# Altium footprint library Connectivity_Plugs.PcbLib: 37 footprints (part 2 of 3)
Each footprint in its own frame and in the unit in brackets; x right, y up, seen from the top. Pads: shape width x height; smd on the part's side, far side on the other; paste and mask are expansions set on the pad; w line width, h text height; cw(c..) or ccw(c..) is an arc to the next point about the centre after c.
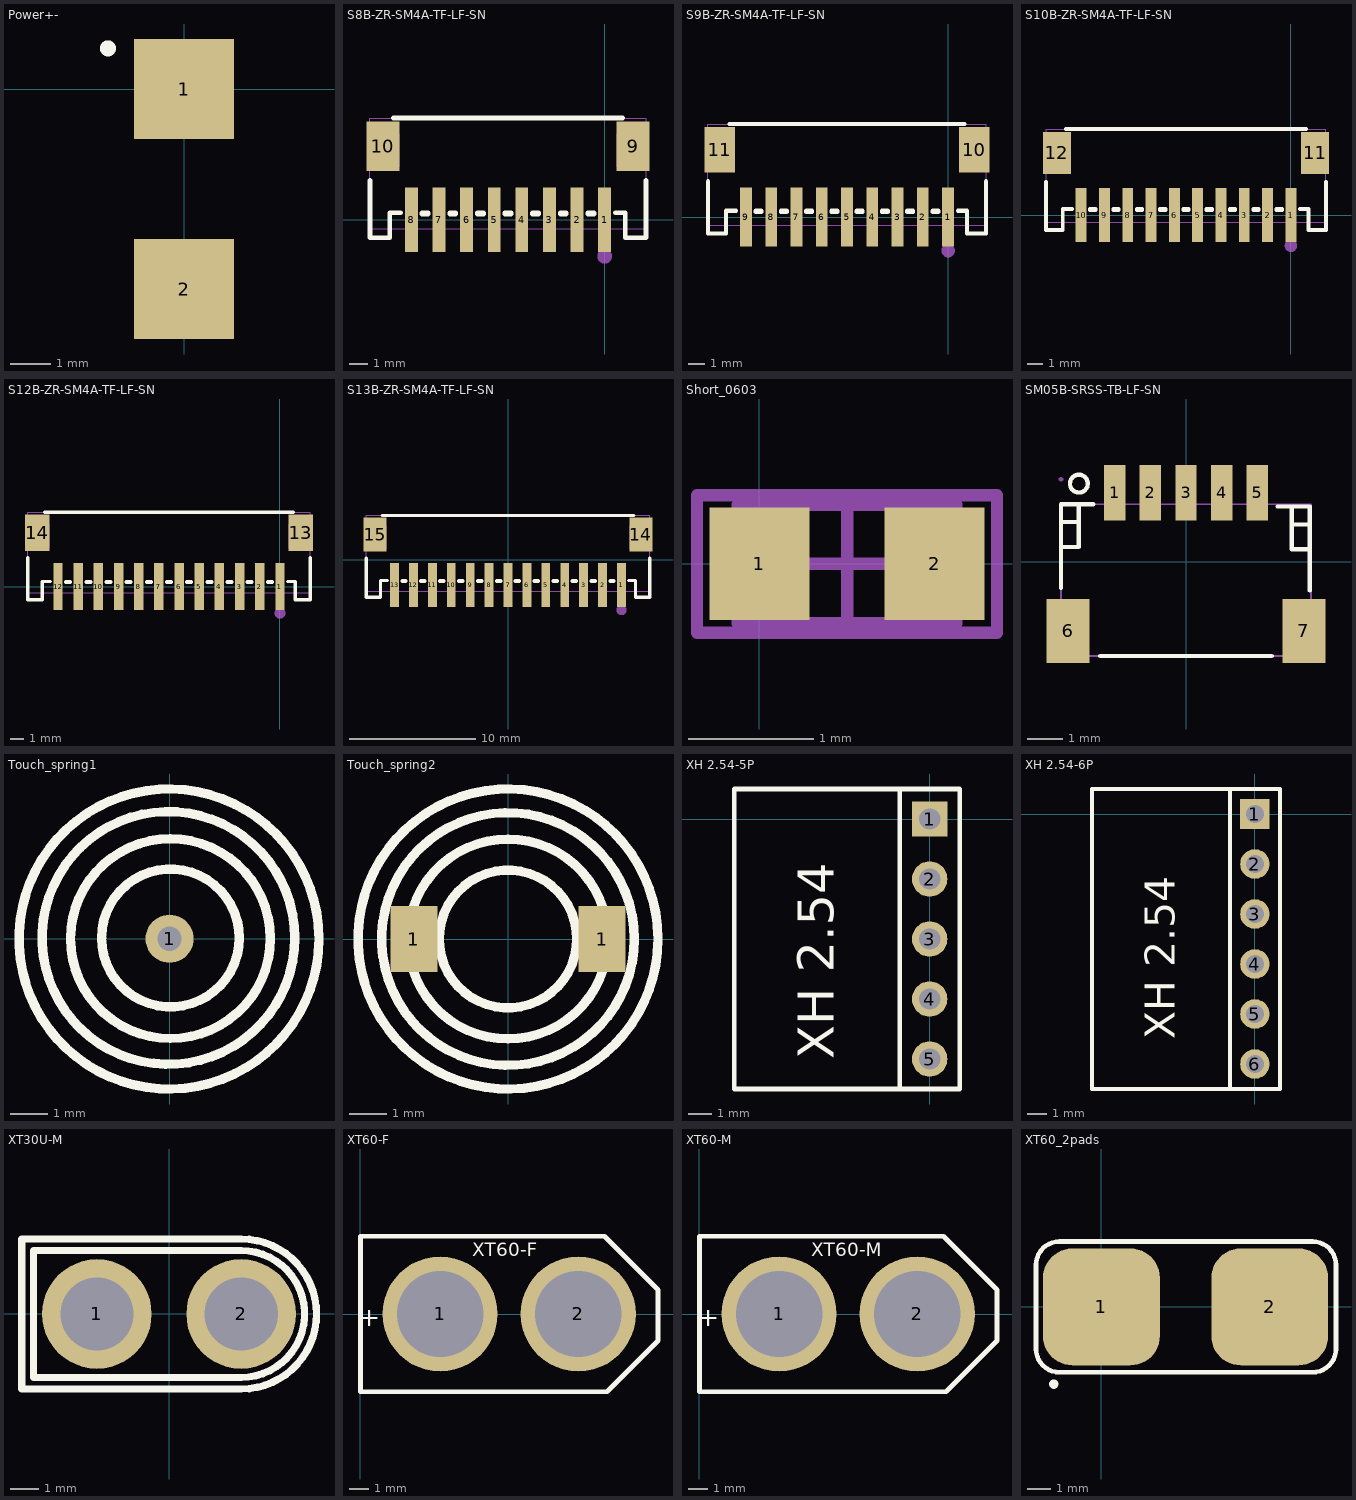
[diagram p1: the footprints below, top view; thin cyan lines are the x and y axes]

## Power+- [mm]
pads (2):
  rect 2.5x2.5 smd: 1(0,0) 2(0,-5)
Top Overlay:
  circle w0.2: c-1.905,1.016 r0.1

## S8B-ZR-SM4A-TF-LF-SN [mm] "SMD"
pads (10):
  rect 0.7x3.5 smd mask+0.051: 1(0,0) 2(-1.5,0) 3(-3,0) 4(-4.5,0) 5(-6,0) 6(-7.5,0) 7(-9,0) 8(-10.5,0)
  rect 1.8x2.7 smd mask+0.051: 9(1.55,4.003) 10(-12.05,4.004)
Top Overlay:
  lines w0.254: -12.75,2.141 -12.75,-0.969 -11.679,-0.969 -11.679,0.375 -11.081,0.375 ; -11.475,5.531 0.976,5.531 ; -9.919,0.312 -9.581,0.312 ; -9.919,0.375 -9.581,0.375 ; -8.419,0.312 -8.081,0.312 ; -8.419,0.375 -8.081,0.375 ; -6.919,0.312 -6.581,0.312 ; -6.919,0.375 -6.581,0.375 ; -5.419,0.312 -5.081,0.312 ; -5.419,0.375 -5.081,0.375 ; -3.919,0.312 -3.581,0.312 ; -3.919,0.375 -3.581,0.375 ; -2.419,0.312 -2.081,0.312 ; -2.419,0.375 -2.081,0.375 ; -0.919,0.312 -0.581,0.312 ; -0.919,0.375 -0.581,0.375 ; 0.581,0.375 1.125,0.375 1.125,-0.969 2.25,-0.969 2.25,2.141
Mechanical 6:
  circle w0.4: c0,-1.984 r0.2
Mechanical 15:
  region: -12.75,4.681 -11.15,4.681 -11.15,2.881 -12.75,2.881
  region: 0.65,4.68 2.25,4.68 2.25,2.88 0.65,2.88
  region: 0.2,-0.978 -0.2,-0.978 -0.2,1.522 0.2,1.522
  region: -1.3,-0.978 -1.7,-0.978 -1.7,1.522 -1.3,1.522
  region: -2.8,-0.978 -3.2,-0.978 -3.2,1.522 -2.8,1.522
  region: -4.3,-0.978 -4.7,-0.978 -4.7,1.522 -4.3,1.522
  region: -5.8,-0.978 -6.2,-0.978 -6.2,1.522 -5.8,1.522
  region: -7.3,-0.978 -7.7,-0.978 -7.7,1.522 -7.3,1.522
  region: -8.8,-0.978 -9.2,-0.978 -9.2,1.522 -8.8,1.522
  region: -10.3,-0.978 -10.7,-0.978 -10.7,1.522 -10.3,1.522
  region: 2.31,-0.978 2.31,-0.954 2.275,-0.918 2.225,-0.918 2.19,-0.954 2.19,-0.978 2.19,-1.003 2.225,-1.038 2.275,-1.038 2.31,-1.003
  lines w0.051: -12.75,-0.478 -12.75,5.522 2.25,5.522 2.25,-0.478 -12.75,-0.478
3D body: height 3.7, standoff 0, extent -12.954,-1.143 2.413,5.588

## S9B-ZR-SM4A-TF-LF-SN [mm] "SMD"
pads (11):
  rect 0.7x3.5 smd mask+0.051: 1(0,0) 2(-1.5,0) 3(-3,0) 4(-4.5,0) 5(-6,0) 6(-7.5,0) 7(-9,0) 8(-10.5,0) 9(-12,0)
  rect 1.8x2.7 smd mask+0.051: 10(1.55,4.003) 11(-13.55,4.004)
Top Overlay:
  lines w0.254: -14.25,2.141 -14.25,-0.969 -13.179,-0.969 -13.179,0.375 -12.581,0.375 ; -12.975,5.531 0.976,5.531 ; -11.419,0.312 -11.081,0.312 ; -11.419,0.375 -11.081,0.375 ; -9.919,0.312 -9.581,0.312 ; -9.919,0.375 -9.581,0.375 ; -8.419,0.312 -8.081,0.312 ; -8.419,0.375 -8.081,0.375 ; -6.919,0.312 -6.581,0.312 ; -6.919,0.375 -6.581,0.375 ; -5.419,0.312 -5.081,0.312 ; -5.419,0.375 -5.081,0.375 ; -3.919,0.312 -3.581,0.312 ; -3.919,0.375 -3.581,0.375 ; -2.419,0.312 -2.081,0.312 ; -2.419,0.375 -2.081,0.375 ; -0.919,0.312 -0.581,0.312 ; -0.919,0.375 -0.581,0.375 ; 0.581,0.375 1.125,0.375 1.125,-0.969 2.25,-0.969 2.25,2.141
Mechanical 6:
  circle w0.4: c0,-1.984 r0.2
Mechanical 15:
  region: 2.31,-0.978 2.31,-0.954 2.275,-0.918 2.225,-0.918 2.19,-0.954 2.19,-0.978 2.19,-1.003 2.225,-1.038 2.275,-1.038 2.31,-1.003
  region: -11.8,-0.978 -12.2,-0.978 -12.2,1.522 -11.8,1.522
  region: -10.3,-0.978 -10.7,-0.978 -10.7,1.522 -10.3,1.522
  region: -8.8,-0.978 -9.2,-0.978 -9.2,1.522 -8.8,1.522
  region: -7.3,-0.978 -7.7,-0.978 -7.7,1.522 -7.3,1.522
  region: -5.8,-0.978 -6.2,-0.978 -6.2,1.522 -5.8,1.522
  region: -4.3,-0.978 -4.7,-0.978 -4.7,1.522 -4.3,1.522
  region: -2.8,-0.978 -3.2,-0.978 -3.2,1.522 -2.8,1.522
  region: -1.3,-0.978 -1.7,-0.978 -1.7,1.522 -1.3,1.522
  region: 0.2,-0.978 -0.2,-0.978 -0.2,1.522 0.2,1.522
  region: 0.65,4.68 2.25,4.68 2.25,2.88 0.65,2.88
  region: -14.25,4.681 -12.65,4.681 -12.65,2.881 -14.25,2.881
  lines w0.051: -14.25,-0.478 2.25,-0.478 2.25,5.522 -14.25,5.522 -14.25,-0.478
3D body: height 3.7, standoff 0, extent -14.478,-1.143 2.413,5.588

## S10B-ZR-SM4A-TF-LF-SN [mm] "SMD"
pads (12):
  rect 0.7x3.5 smd mask+0.051: 1(0,0) 2(-1.5,0) 3(-3,0) 4(-4.5,0) 5(-6,0) 6(-7.5,0) 7(-9,0) 8(-10.5,0) 9(-12,0) 10(-13.5,0)
  rect 1.8x2.7 smd mask+0.051: 11(1.55,4.003) 12(-15.05,4.004)
Top Overlay:
  lines w0.254: -15.75,2.141 -15.75,-0.969 -14.679,-0.969 -14.679,0.375 -14.081,0.375 ; -14.475,5.531 0.976,5.531 ; -12.919,0.312 -12.581,0.312 ; -12.919,0.375 -12.581,0.375 ; -11.419,0.312 -11.081,0.312 ; -11.419,0.375 -11.081,0.375 ; -9.919,0.312 -9.581,0.312 ; -9.919,0.375 -9.581,0.375 ; -8.419,0.312 -8.081,0.312 ; -8.419,0.375 -8.081,0.375 ; -6.919,0.312 -6.581,0.312 ; -6.919,0.375 -6.581,0.375 ; -5.419,0.312 -5.081,0.312 ; -5.419,0.375 -5.081,0.375 ; -3.919,0.312 -3.581,0.312 ; -3.919,0.375 -3.581,0.375 ; -2.419,0.312 -2.081,0.312 ; -2.419,0.375 -2.081,0.375 ; -0.919,0.312 -0.581,0.312 ; -0.919,0.375 -0.581,0.375 ; 0.581,0.375 1.125,0.375 1.125,-0.969 2.25,-0.969 2.25,2.141
Mechanical 6:
  circle w0.4: c0,-1.984 r0.2
Mechanical 15:
  region: 0.65,4.68 2.25,4.68 2.25,2.88 0.65,2.88
  region: 0.2,-0.978 -0.2,-0.978 -0.2,1.522 0.2,1.522
  region: -1.3,-0.978 -1.7,-0.978 -1.7,1.522 -1.3,1.522
  region: -2.8,-0.978 -3.2,-0.978 -3.2,1.522 -2.8,1.522
  region: -4.3,-0.978 -4.7,-0.978 -4.7,1.522 -4.3,1.522
  region: -5.8,-0.978 -6.2,-0.978 -6.2,1.522 -5.8,1.522
  region: -7.3,-0.978 -7.7,-0.978 -7.7,1.522 -7.3,1.522
  region: -8.8,-0.978 -9.2,-0.978 -9.2,1.522 -8.8,1.522
  region: -10.3,-0.978 -10.7,-0.978 -10.7,1.522 -10.3,1.522
  region: -11.8,-0.978 -12.2,-0.978 -12.2,1.522 -11.8,1.522
  region: -13.3,-0.978 -13.7,-0.978 -13.7,1.522 -13.3,1.522
  region: 2.31,-0.978 2.31,-0.954 2.275,-0.918 2.225,-0.918 2.19,-0.954 2.19,-0.978 2.19,-1.003 2.225,-1.038 2.275,-1.038 2.31,-1.003
  region: -15.75,4.681 -14.15,4.681 -14.15,2.881 -15.75,2.881
  lines w0.051: -15.75,-0.478 2.25,-0.478 2.25,5.522 -15.75,5.522 -15.75,-0.478
3D body: height 3.7, standoff 0, extent -15.865,-1.143 2.413,5.588

## S12B-ZR-SM4A-TF-LF-SN [mm] "SMD"
pads (14):
  rect 0.7x3.5 smd mask+0.051: 1(0,0) 2(-1.5,0) 3(-3,0) 4(-4.5,0) 5(-6,0) 6(-7.5,0) 7(-9,0) 8(-10.5,0) 9(-12,0) 10(-13.5,0) 11(-15,0) 12(-16.5,0)
  rect 1.8x2.7 smd mask+0.051: 13(1.55,4.003) 14(-18.05,4.004)
Top Overlay:
  lines w0.254: -18.75,2.141 -18.75,-0.969 -17.679,-0.969 -17.679,0.375 -17.081,0.375 ; -17.475,5.531 0.976,5.531 ; -15.919,0.312 -15.581,0.312 ; -15.919,0.375 -15.581,0.375 ; -14.419,0.312 -14.081,0.312 ; -14.419,0.375 -14.081,0.375 ; -12.919,0.312 -12.581,0.312 ; -12.919,0.375 -12.581,0.375 ; -11.419,0.312 -11.081,0.312 ; -11.419,0.375 -11.081,0.375 ; -9.919,0.312 -9.581,0.312 ; -9.919,0.375 -9.581,0.375 ; -8.419,0.312 -8.081,0.312 ; -8.419,0.375 -8.081,0.375 ; -6.919,0.312 -6.581,0.312 ; -6.919,0.375 -6.581,0.375 ; -5.419,0.312 -5.081,0.312 ; -5.419,0.375 -5.081,0.375 ; -3.919,0.312 -3.581,0.312 ; -3.919,0.375 -3.581,0.375 ; -2.419,0.312 -2.081,0.312 ; -2.419,0.375 -2.081,0.375 ; -0.919,0.312 -0.581,0.312 ; -0.919,0.375 -0.581,0.375 ; 0.581,0.375 1.125,0.375 1.125,-0.969 2.25,-0.969 2.25,2.141
Mechanical 6:
  circle w0.4: c0,-1.984 r0.2
Mechanical 15:
  region: 0.65,4.68 2.25,4.68 2.25,2.88 0.65,2.88
  region: 0.2,-0.978 -0.2,-0.978 -0.2,1.522 0.2,1.522
  region: -1.3,-0.978 -1.7,-0.978 -1.7,1.522 -1.3,1.522
  region: -2.8,-0.978 -3.2,-0.978 -3.2,1.522 -2.8,1.522
  region: -4.3,-0.978 -4.7,-0.978 -4.7,1.522 -4.3,1.522
  region: -5.8,-0.978 -6.2,-0.978 -6.2,1.522 -5.8,1.522
  region: -7.3,-0.978 -7.7,-0.978 -7.7,1.522 -7.3,1.522
  region: -8.8,-0.978 -9.2,-0.978 -9.2,1.522 -8.8,1.522
  region: -10.3,-0.978 -10.7,-0.978 -10.7,1.522 -10.3,1.522
  region: -11.8,-0.978 -12.2,-0.978 -12.2,1.522 -11.8,1.522
  region: -13.3,-0.978 -13.7,-0.978 -13.7,1.522 -13.3,1.522
  region: 2.31,-0.978 2.31,-0.954 2.275,-0.918 2.225,-0.918 2.19,-0.954 2.19,-0.978 2.19,-1.003 2.225,-1.038 2.275,-1.038 2.31,-1.003
  region: -14.8,-0.978 -15.2,-0.978 -15.2,1.522 -14.8,1.522
  region: -16.3,-0.978 -16.7,-0.978 -16.7,1.522 -16.3,1.522
  region: -18.75,4.681 -17.15,4.681 -17.15,2.881 -18.75,2.881
  lines w0.051: -18.75,-0.478 2.25,-0.478 2.25,5.522 -18.75,5.522 -18.75,-0.478
3D body: height 3.7, standoff 0, extent -18.923,-1.143 2.413,5.588

## S13B-ZR-SM4A-TF-LF-SN [mm] "SMD"
pads (15):
  rect 0.7x3.5 smd mask+0.051: 1(9,-2.002) 2(7.5,-2.002) 3(6,-2.002) 4(4.5,-2.002) 5(3,-2.002) 6(1.5,-2.002) 7(0,-2.002) 8(-1.5,-2.002) 9(-3,-2.002) 10(-4.5,-2.002) 11(-6,-2.002) 12(-7.5,-2.002) 13(-9,-2.002)
  rect 1.8x2.7 smd mask+0.051: 14(10.55,2.001) 15(-10.55,2.002)
Top Overlay:
  lines w0.254: -11.25,0.138 -11.25,-2.971 -10.125,-2.971 -10.125,-1.627 -9.581,-1.627 ; -9.975,3.529 9.976,3.529 ; -8.419,-1.69 -8.081,-1.69 ; -8.419,-1.627 -8.081,-1.627 ; -6.919,-1.69 -6.581,-1.69 ; -6.919,-1.627 -6.581,-1.627 ; -5.419,-1.69 -5.081,-1.69 ; -5.419,-1.627 -5.081,-1.627 ; -3.919,-1.69 -3.581,-1.69 ; -3.919,-1.627 -3.581,-1.627 ; -2.419,-1.69 -2.081,-1.69 ; -2.419,-1.627 -2.081,-1.627 ; -0.919,-1.69 -0.581,-1.69 ; -0.919,-1.627 -0.581,-1.627 ; 0.581,-1.69 0.919,-1.69 ; 0.581,-1.627 0.919,-1.627 ; 2.081,-1.69 2.419,-1.69 ; 2.081,-1.627 2.419,-1.627 ; 3.581,-1.69 3.919,-1.69 ; 3.581,-1.627 3.919,-1.627 ; 5.081,-1.69 5.419,-1.69 ; 5.081,-1.627 5.419,-1.627 ; 6.581,-1.69 6.919,-1.69 ; 6.581,-1.627 6.919,-1.627 ; 8.081,-1.69 8.419,-1.69 ; 8.081,-1.627 8.419,-1.627 ; 9.581,-1.627 10.125,-1.627 10.125,-2.971 11.25,-2.971 11.25,0.138
Mechanical 6:
  circle w0.4: c9,-3.987 r0.2
Mechanical 15:
  region: 11.31,-2.98 11.31,-2.956 11.275,-2.92 11.225,-2.92 11.19,-2.956 11.19,-2.98 11.19,-3.005 11.225,-3.04 11.275,-3.04 11.31,-3.005
  region: -8.8,-2.98 -9.2,-2.98 -9.2,-0.48 -8.8,-0.48
  region: -7.3,-2.98 -7.7,-2.98 -7.7,-0.48 -7.3,-0.48
  region: -5.8,-2.98 -6.2,-2.98 -6.2,-0.48 -5.8,-0.48
  region: -4.3,-2.98 -4.7,-2.98 -4.7,-0.48 -4.3,-0.48
  region: -2.8,-2.98 -3.2,-2.98 -3.2,-0.48 -2.8,-0.48
  region: -1.3,-2.98 -1.7,-2.98 -1.7,-0.48 -1.3,-0.48
  region: 0.2,-2.98 -0.2,-2.98 -0.2,-0.48 0.2,-0.48
  region: 1.7,-2.98 1.3,-2.98 1.3,-0.48 1.7,-0.48
  region: 3.2,-2.98 2.8,-2.98 2.8,-0.48 3.2,-0.48
  region: 4.7,-2.98 4.3,-2.98 4.3,-0.48 4.7,-0.48
  region: 6.2,-2.98 5.8,-2.98 5.8,-0.48 6.2,-0.48
  region: 7.7,-2.98 7.3,-2.98 7.3,-0.48 7.7,-0.48
  region: 9.2,-2.98 8.8,-2.98 8.8,-0.48 9.2,-0.48
  region: -11.25,2.679 -9.65,2.679 -9.65,0.879 -11.25,0.879
  region: 9.65,2.678 11.25,2.678 11.25,0.878 9.65,0.878
  lines w0.051: -11.25,-2.481 -11.25,3.519 11.25,3.519 11.25,-2.481 -11.25,-2.481
3D body: height 3.7, standoff 0, extent -11.303,-3.048 11.303,3.683

## Short_0603 [mm]
pads (2):
  rect 0.8x0.9 smd: 1(0,0) 2(1.4,0)
Mechanical 13:
  lines w0.1: -0.175,-0.475 -0.175,0.475 1.575,0.475 1.575,-0.475 -0.175,-0.475
Mechanical 15:
  lines w0.1: 0.225,0 1.175,0 ; 0.7,-0.475 0.7,0.475 ; -0.5,-0.55 -0.5,0.55 1.9,0.55 1.9,-0.55 -0.5,-0.55

## SM05B-SRSS-TB-LF-SN [mm] "https://www.jst-mfg.com/product/index.php?series=231"
pads (7):
  rect 0.6x1.55 smd paste+0 mask+0.051: 1(-2,1.937) 2(-0.999,1.937) 3(0.001,1.937) 4(1,1.937) 5(2.001,1.937)
  rect 1.2x1.8 smd paste+0 mask+0.051: 6(-3.3,-1.937) 7(3.3,-1.937)
Top Overlay:
  lines w0.12: -3.501,-0.737 -3.501,1.612 -2.599,1.612 ; -2.75,2.176 cw(c-3,2.188) -2.75,2.187 ; -2.398,-2.637 2.4,-2.637 ; 2.565,1.546 3.464,1.546 3.464,-0.803 ; -3,0.413 -3,1.612 -3,0.413 ; -3,0.413 -3.501,0.413 -3,0.413 ; 2.964,0.347 3.464,0.347 2.964,0.347 ; 2.964,0.347 2.964,1.546 2.964,0.347 ; -3.501,1.112 -3,1.112 -3.501,1.112 ; 2.964,1.046 3.464,1.046 2.964,1.046
Mechanical 15:
  region: -3.44,2.313 -3.44,2.338 -3.475,2.373 -3.525,2.373 -3.56,2.338 -3.56,2.313 -3.56,2.288 -3.525,2.253 -3.475,2.253 -3.44,2.288
  region: 1.851,2.313 2.151,2.313 2.151,1.413 1.851,1.413
  region: 0.85,2.313 1.15,2.313 1.15,1.413 0.85,1.413
  region: -0.149,2.313 0.151,2.313 0.151,1.413 -0.149,1.413
  region: -1.149,2.313 -0.849,2.313 -0.849,1.413 -1.149,1.413
  region: -2.15,2.313 -1.85,2.313 -1.85,1.413 -2.15,1.413
  region: 3.15,-1.137 3.45,-1.137 3.45,-2.637 3.15,-2.637
  region: -3.45,-1.137 -3.15,-1.137 -3.15,-2.637 -3.45,-2.637
  lines w0.051: -3.5,-2.637 -3.5,1.613 3.5,1.613 3.5,-2.637 -3.5,-2.637
3D body "SM05B-SRSS-TB.STEP": height 3.25, standoff 0.3, extent -3.5,-2.625 3.5,2.325

## Touch_spring1 [mm]
pads (1):
  round 1.3 hole 0.65: 1(0,0)
Top Overlay:
  circle w0.254: c0.023,0.022 r1.859
  circle w0.254: c0.023,0.004 r2.696
  circle w0.254: c-0.031,0.022 r3.409
  circle w0.254: c-0.016,-0.006 r4.047
Mechanical 15:
  lines w0.003: -0.016,0.418 -0.015,0.418

## Touch_spring2 [mil]
pads (2):
  rect 50x70 smd: 1(-100,0) 1(100,0)
Top Overlay:
  circle w10: c0,0 r159.34
  circle w10: c0,0 r134.2
  circle w10: c0,0 r106.14
  circle w10: c0,0 r73.18
Mechanical 15:
  lines w0.1: -0.63,16.45 -0.61,16.46

## XH 2.54-5P [mm]
pads (5):
  rect 1.5x1.5 hole 0.9: 1(0,0)
  round 1.5 hole 0.9: 2(0,-2.54) 3(0,-5.08) 4(0,-7.62) 5(0,-10.16)
Top Overlay:
  lines w0.2: -1.27,-11.43 -1.27,1.27 -1.27,-1.27 ; -8.27,-11.43 -8.27,1.27 1.27,1.27 1.27,-11.43 -8.27,-11.43
  text "XH 2.54" at -4.064,-10.16 h1.52

## XH 2.54-6P [mm]
pads (6):
  rect 1.5x1.5 hole 0.9: 1(0,0)
  round 1.5 hole 0.9: 2(0,-2.54) 3(0,-5.08) 4(0,-7.62) 5(0,-10.16) 6(0,-12.7)
Top Overlay:
  lines w0.2: -1.27,-1.27 -1.27,1.27 ; -1.27,-13.97 -8.27,-13.97 -8.27,1.27 -1.27,1.27 ; -1.27,-13.97 1.016,-13.97 1.27,-13.97 1.27,1.27 -1.27,1.27 ; -1.27,-13.97 -1.27,1.27
  text "XH 2.54" at -4.064,-11.43 h1.52

## XT30U-M [mm]
pads (2):
  round 3.8 hole 2.54 paste+0 mask+0.05: 1(-2.5,0) 2(2.5,0)
Top Overlay:
  lines w0.254: 2.5,2.2 cw(c2.5,0) 2.501,-2.2 ; 2.5,2.2 2.5,2.2 ; 2.5,2.2 2,2.2 -4.7,2.2 -4.7,-2.2 2,-2.2 2.501,-2.2 ; 2.501,-2.2 2.501,-2.2 ; -5.1,-2.6 2.514,-2.6 ccw(c2.514,0) 2.514,2.6 -5.1,2.6 -5.1,-2.6
Mechanical 6:
  region: 2.5,2.7 -5.1,2.7 -5.2,2.6 -5.2,-2.6 -5.1,-2.7 2.5,-2.7 2.5,-2.5 -5,-2.5 -5,2.5 2.5,2.5
  region: 2.5,-2.5 2.745,-2.488 3.226,-2.392 3.678,-2.205 4.086,-1.933 4.432,-1.586 4.705,-1.178 4.892,-0.726 4.988,-0.245 5,0 5.2,0 5.2,-0.177 5.154,-0.528 5.062,-0.87 4.927,-1.197 4.75,-1.503 4.534,-1.784 4.284,-2.034 4.003,-2.25 3.697,-2.427 3.37,-2.562 3.028,-2.654 2.677,-2.7 2.5,-2.7
  region: 5,0 4.988,0.245 4.892,0.726 4.705,1.178 4.432,1.586 4.086,1.933 3.678,2.205 3.226,2.392 2.745,2.488 2.5,2.5 2.5,2.7 2.677,2.7 3.028,2.654 3.37,2.562 3.697,2.427 4.003,2.25 4.284,2.034 4.534,1.784 4.75,1.503 4.927,1.197 5.062,0.87 5.154,0.528 5.2,0.177 5.2,0
Mechanical 15:
  region: -1.5,0 -1.5,0.132 -1.568,0.386 -1.7,0.614 -1.886,0.8 -2.114,0.932 -2.368,1 -2.632,1 -2.886,0.932 -3.114,0.8 -3.3,0.614 -3.432,0.386 -3.5,0.132 -3.5,0 -3.5,-0.132 -3.432,-0.386 -3.3,-0.614 -3.114,-0.8 -2.886,-0.932 -2.632,-1 -2.368,-1 -2.114,-0.932 -1.886,-0.8 -1.7,-0.614 -1.568,-0.386 -1.5,-0.132
  region: 3.5,0 3.5,0.132 3.432,0.386 3.3,0.614 3.114,0.8 2.886,0.932 2.632,1 2.368,1 2.114,0.932 1.886,0.8 1.7,0.614 1.568,0.386 1.5,0.132 1.5,0 1.5,-0.132 1.568,-0.386 1.7,-0.614 1.886,-0.8 2.114,-0.932 2.368,-1 2.632,-1 2.886,-0.932 3.114,-0.8 3.3,-0.614 3.432,-0.386 3.5,-0.132
  region: -5.04,-2.6 -5.04,-2.575 -5.075,-2.54 -5.125,-2.54 -5.16,-2.575 -5.16,-2.6 -5.16,-2.625 -5.125,-2.66 -5.075,-2.66 -5.04,-2.625
  lines w0.051: -5.1,-2.6 2.514,-2.6 ccw(c2.514,0) 5.114,0 ccw(c2.514,0) 2.514,2.6 -5.08,2.54 ccw(c-5.08,2.52) -5.1,2.52 -5.1,-2.6

## XT60-F [mm]
pads (2):
  round 6 hole 4.5: 1(4.15,0) 2(11.35,0)
Top Overlay:
  lines w0.254: 0,-4.05 12.841,-4.05 15.5,-1.391 15.5,-1.2 15.5,1.2 15.5,1.264 12.714,4.05 0,4.05 0,-4.05
  text "XT60-F" at 5.815,3.021 h0.7
  text "+" at -0.127,-0.635 h1
3D body "AMASS_XT60-F_1x02_P7.2mm_Vertical.step": height 16.7, standoff -4.5, extent -0.254,-4.05 15.646,4.05

## XT60-M [mm]
pads (2):
  round 6 hole 4.5: 1(4.15,0) 2(11.35,0)
Top Overlay:
  lines w0.254: 0,-4.05 0,4.05 12.714,4.05 15.5,1.264 15.5,1.2 15.5,-1.2 15.5,-1.391 12.841,-4.05 0,-4.05
  text "+" at -0.127,-0.635 h1
  text "XT60-M" at 5.815,3.021 h0.7
3D body "AMASS_XT60-M_1x02_P7.2mm_Vertical.step": height 16, standoff -4.5, extent -0.203,-4.064 15.697,4.036

## XT60_2pads [mm]
pads (2):
  rrect50% 5x5 smd: 1(0,0) 2(7.2,0)
Top Overlay:
  circle w0.2: c-2.032,-3.302 r0.1
  lines w0.2: -2.794,-1.794 ccw(c-1.794,-1.794) -1.794,-2.794 9.033,-2.794 ccw(c9.033,-1.794) 10.033,-1.794 10.033,1.794 ccw(c9.033,1.794) 9.033,2.794 -1.794,2.794 ccw(c-1.794,1.794) -2.794,1.794 -2.794,-1.794
3D body "AMASS_XT60-M_1x02_P7.2mm_Vertical.step": height 6.25, standoff -1.85, extent -4.311,-18.921 11.589,1.579